# Altium footprint library Power.PcbLib: 17 footprints (part 2 of 2)
Each footprint in its own frame and in the unit in brackets; x right, y up, seen from the top. Pads: shape width x height; smd on the part's side, far side on the other; paste and mask are expansions set on the pad; w line width, h text height; cw(c..) or ccw(c..) is an arc to the next point about the centre after c.
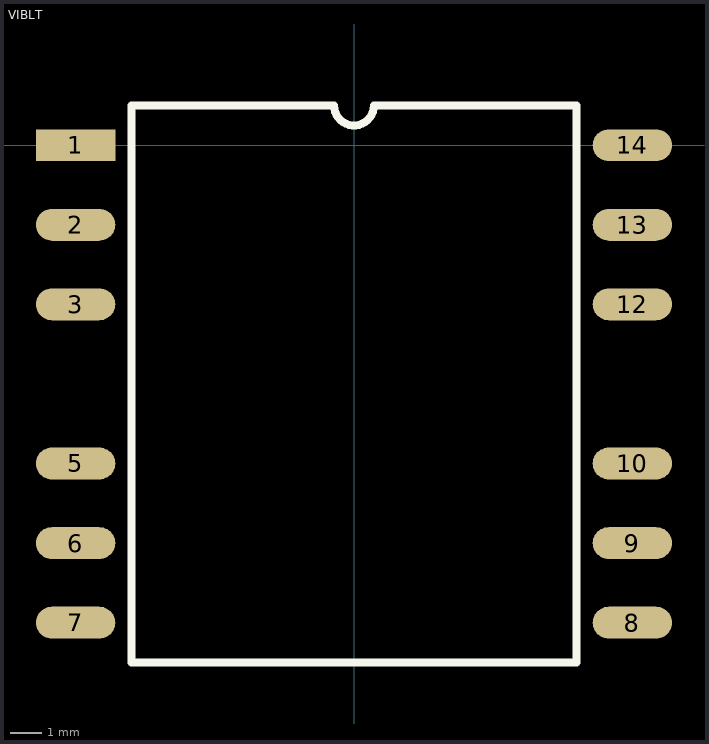
[diagram p1: the footprint, top view; thin cyan lines are the x and y axes]

## VIBLT [mil]
pads (12):
  rect 100x40 smd: 1(-350,0)
  oval 100x40 smd: 2(-350,-100) 3(-350,-200) 5(-350,-400) 6(-350,-500) 7(-350,-600) 8(350,-600) 9(350,-500) 10(350,-400) 12(350,-200) 13(350,-100) 14(350,0)
TopOverlay:
  lines w10: -280,-650 280,-650 280,50 25,50 cw(c0,50) -25,50 -280,50 -280,-650